# Altium integrated library Linear Technology Power Management Switching Regulator LTC1174-LTC3901.IntLib: 2647 symbols (part 80 of 364)
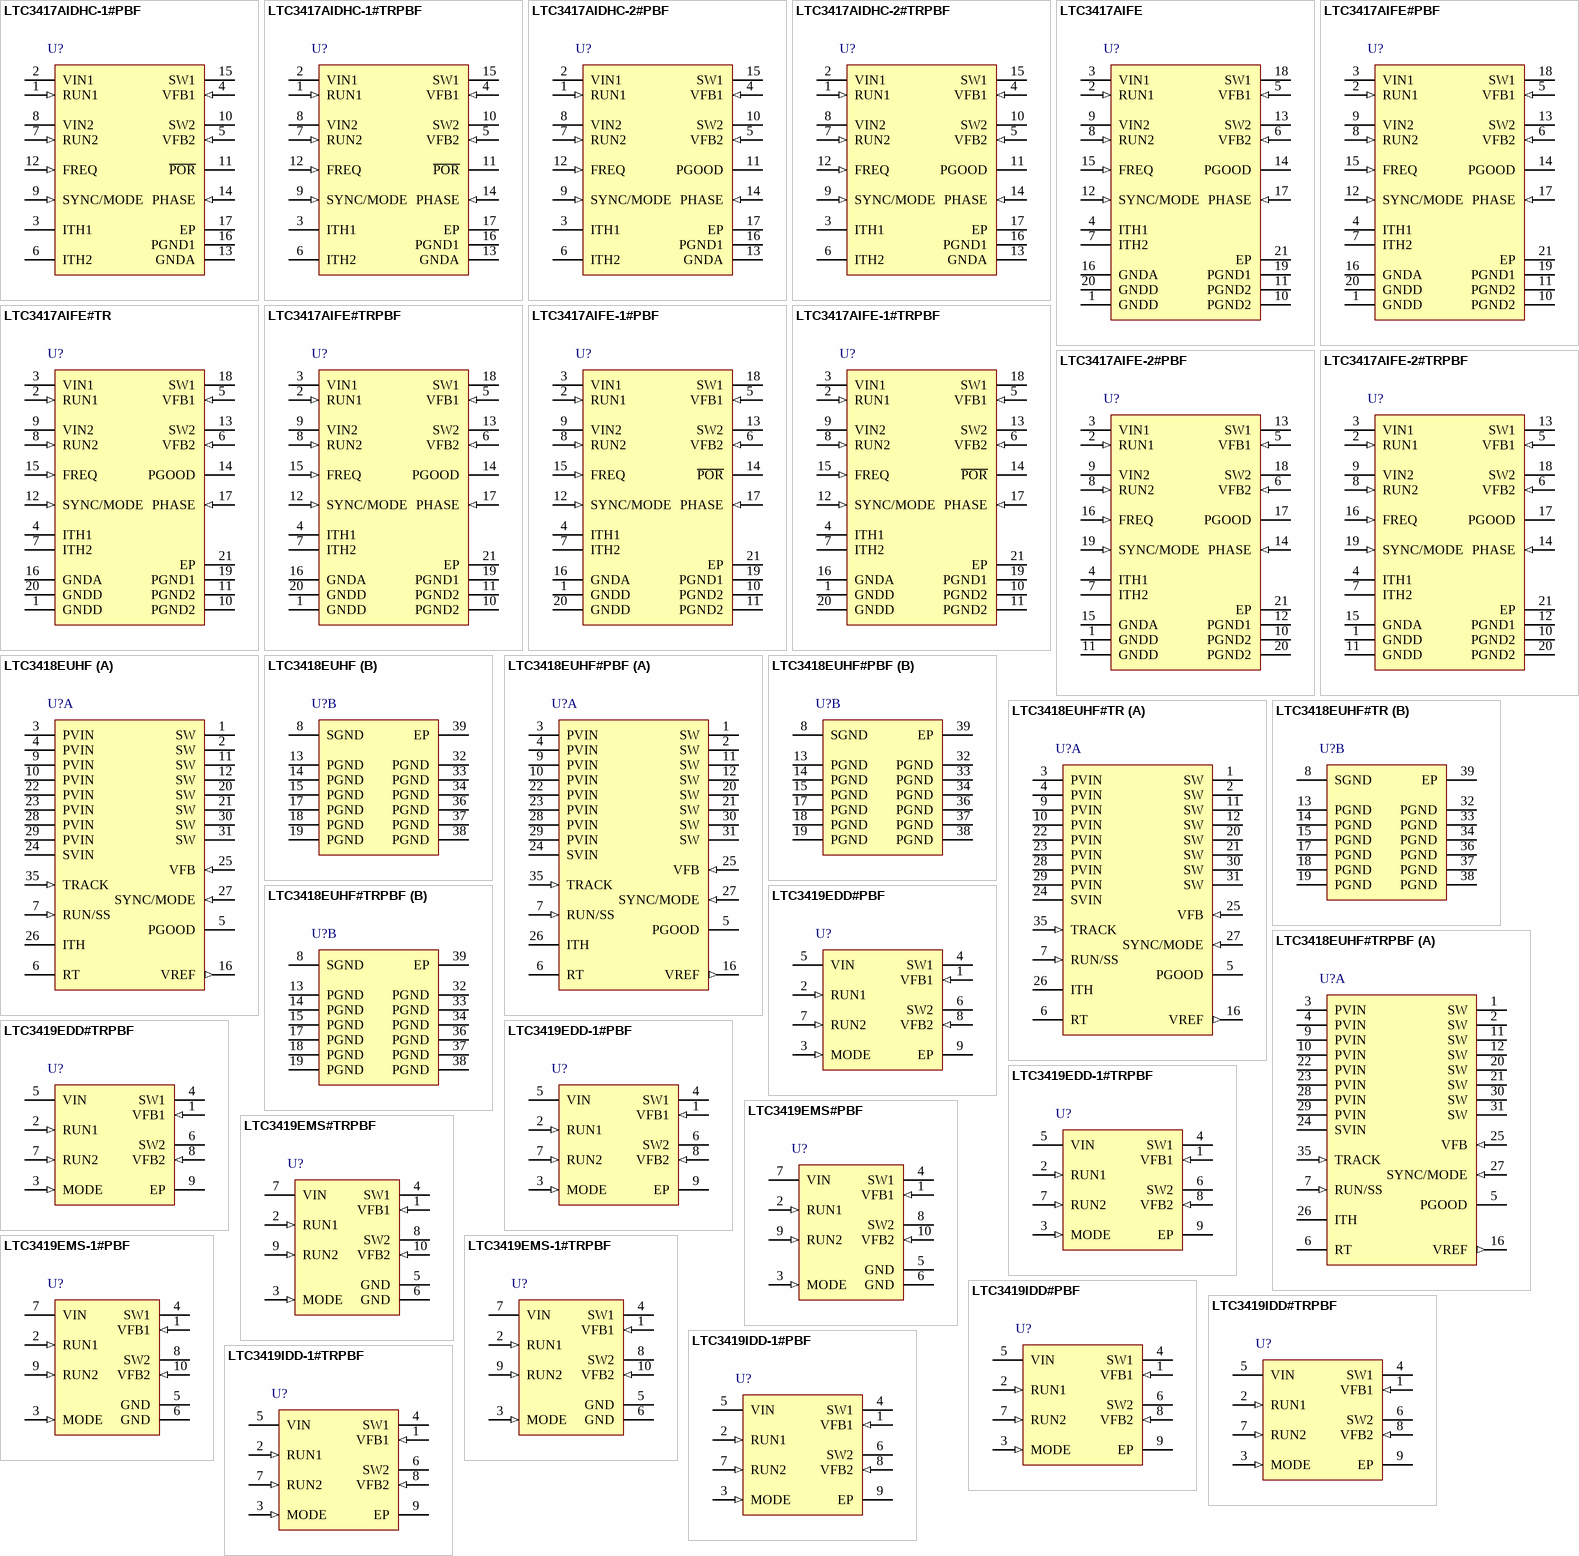
[diagram p156: symbols LTC3417AIDHC-1#PBF to LTC3419IDD-1#TRPBF]

## LTC3418EUHF#TRPBF
designator U?
8 A, 4 MHz, Monolithic Synchronous Step-Down Regulator, 38-pin QFN (UHF-38), -40 to 85 degC, Pb-Free, Tape and Reel; Manufacturer: Linear Technology; PartNumber: LTC3418EUHF#TRPBF; Frequency Sync Range: 300kHz - 4MHz; Number of Outputs: 1; DatasheetVersion: Rev. B; PackageVersion: Rev. C, 06/2010; PackageReference: UHF-38; PackageDescription: 38-Pin Plastic QFN, Body 7 x 5 mm, Pitch 0.5 mm; Supplier 1: Digi-Key; Supplier Part Number 1: LTC3418EUHF#TRPBF-ND; Supplier 2: Newark; Supplier Part Number 2: 56M7747; Packing: Tape and Reel; RoHS: TRUE; Mounting Technology: Surface Mount; Code_JEDEC: MO-220; ComponentLink1Description: Manufacturer URL; ComponentLink1URL: http://www.linear.com/; ComponentLink2Description: Datasheet; ComponentLink2URL: http://cds.linear.com/docs/en/datasheet/3418fb.pdf; ComponentLink3Description: Package Specification; ComponentLink3URL: http://cds.linear.com/docs/en/packaging/QFN_38_05-08-1701.pdf
footprint LT-UHF-38_N (QFN, 38-Leads, Body 7.1x5.1mm, Pitch 0.5mm, Thermal Pad 3.15x5.15mm, IPC Medium Density)
footprint LT-UHF-38_L (QFN, 38-Leads, Body 7.1x5.1mm, Pitch 0.5mm, Thermal Pad 3.15x5.15mm, IPC High Density)
footprint LT-UHF-38_M (QFN, 38-Leads, Body 7.1x5.1mm, Pitch 0.5mm, Thermal Pad 3.15x5.15mm, IPC Low Density)
part A pins: 1 SW (power) "Switch Node Connection to Inductor. This pin connects to the drains of the internal main and synchronous power MOSFET switches.", 2 SW (power) "Switch Node Connection to Inductor. This pin connects to the drains of the internal main and synchronous power MOSFET switches.", 3 PVIN (power) "Power Input Supply. Decouple these pins to PGND with capacitors on all four corners of the package.", 4 PVIN (power) "Power Input Supply. Decouple these pins to PGND with capacitors on all four corners of the package.", 5 PGOOD (oc) "Power Good Output. Open-drain logic output that is pulled to ground when the output voltage is not within +/-7.5% of regulation point.", 6 RT "Oscillator Resistor Input. Connecting a resistor to ground from this pin sets the switching frequency.", 7 RUN/SS (in) "Run Control and Soft-Start Input. Forcing this pin below 0.5V shuts down the LTC3418. In shutdown all functions are disabled drawing <1.5uA of supply current. A capacitor to ground from this pin sets the ramp time to full (See Datasheet)", 9 PVIN (power) "Power Input Supply. Decouple these pins to PGND with capacitors on all four corners of the package.", 10 PVIN (power) "Power Input Supply. Decouple these pins to PGND with capacitors on all four corners of the package.", 11 SW (power) "Switch Node Connection to Inductor. This pin connects to the drains of the internal main and synchronous power MOSFET switches.", 12 SW (power) "Switch Node Connection to Inductor. This pin connects to the drains of the internal main and synchronous power MOSFET switches.", 16 VREF (out) "Reference Output. Decouple this pin with a 2.2uF capacitor.", 20 SW (power) "Switch Node Connection to Inductor. This pin connects to the drains of the internal main and synchronous power MOSFET switches.", 21 SW (power) "Switch Node Connection to Inductor. This pin connects to the drains of the internal main and synchronous power MOSFET switches.", 22 PVIN (power) "Power Input Supply. Decouple these pins to PGND with capacitors on all four corners of the package.", 23 PVIN (power) "Power Input Supply. Decouple these pins to PGND with capacitors on all four corners of the package.", 24 SVIN (power) "Signal Input Supply. Decouple this pin to SGND with a capacitor.", 25 VFB (in) "Feedback Pin. Receives the feedback voltage from a resistive divider connected across the output.", 26 ITH "Error Amplifier Compensation Point. The current comparator threshold increases with this control voltage. Nominal voltage range for this pin is from 0.2V to 1.4V with 0.4V corresponding to the zero-sense voltage (zero (See Datasheet)", 27 SYNC/MODE (in) "Mode Select and External Clock Synchronization Input. To select Forced Continuous, tie to SVIN. Connecting this pin to a voltage between 0V and 1V selects Burst Mode operation with the burst clamp set to the pin voltage.", 28 PVIN (power) "Power Input Supply. Decouple these pins to PGND with capacitors on all four corners of the package.", 29 PVIN (power) "Power Input Supply. Decouple these pins to PGND with capacitors on all four corners of the package.", 30 SW (power) "Switch Node Connection to Inductor. This pin connects to the drains of the internal main and synchronous power MOSFET switches.", 31 SW (power) "Switch Node Connection to Inductor. This pin connects to the drains of the internal main and synchronous power MOSFET switches.", 35 TRACK (in) "Voltage Tracking Input. Feedback voltage will regulate to the voltage on this pin during start-up power sequencing."
part B pins: 8 SGND (power) "Signal Ground. All small-signal components and compensation components should connect to this ground, which in turn connects to PGND at one point.", 13 PGND (power) "Power Ground. Connect this pin closely to the (-) terminal of CIN and COUT.", 14 PGND (power) "Power Ground. Connect this pin closely to the (-) terminal of CIN and COUT.", 15 PGND (power) "Power Ground. Connect this pin closely to the (-) terminal of CIN and COUT.", 17 PGND (power) "Power Ground. Connect this pin closely to the (-) terminal of CIN and COUT.", 18 PGND (power) "Power Ground. Connect this pin closely to the (-) terminal of CIN and COUT.", 19 PGND (power) "Power Ground. Connect this pin closely to the (-) terminal of CIN and COUT.", 32 PGND (power) "Power Ground. Connect this pin closely to the (-) terminal of CIN and COUT.", 33 PGND (power) "Power Ground. Connect this pin closely to the (-) terminal of CIN and COUT.", 34 PGND (power) "Power Ground. Connect this pin closely to the (-) terminal of CIN and COUT.", 36 PGND (power) "Power Ground. Connect this pin closely to the (-) terminal of CIN and COUT.", 37 PGND (power) "Power Ground. Connect this pin closely to the (-) terminal of CIN and COUT.", 38 PGND (power) "Power Ground. Connect this pin closely to the (-) terminal of CIN and COUT.", 39 EP (power) "The Exposed Pad is PGND and must be soldered to the PCB ground for electrical connection and rated thermal performance."

## LTC3419EDD#PBF
designator U?
Dual Monolithic 600 mA Synchronous Step-Down Regulator, 8-pin SON (DD-8), -40 to 125 degC, Pb-Free; Manufacturer: Linear Technology; PartNumber: LTC3419EDD#PBF; Number of Outputs: 2; DatasheetVersion: Rev. A; PackageVersion: Jun-10; PackageReference: DD-8; PackageDescription: 8-Pin Plastic DFN, Body 3 x 3 mm, Pitch 0.5 mm; Supplier 1: Digi-Key; Supplier Part Number 1: LTC3419EDD#PBF-ND; Supplier 2: Farnell; Supplier Part Number 2: 2295058; Supplier 3: Newark; Supplier Part Number 3: 56M7750; RoHS: TRUE; Mounting Technology: Surface Mount; Code_JEDEC: MO-229; ComponentLink1Description: Manufacturer URL; ComponentLink1URL: http://www.linear.com/; ComponentLink2Description: Datasheet; ComponentLink2URL: http://cds.linear.com/docs/en/datasheet/3419fa.pdf; ComponentLink3Description: Package Specification; ComponentLink3URL: http://cds.linear.com/docs/en/packaging/DFN_8_05-08-1698.pdf
footprint LT-DD-8_V (SON, 8-Leads, Body 3x3mm, Pitch 0.5mm, Thermal Pad 1.65x2.38 mm)
pins: 1 VFB1 (in) "Regulator 1 Output Feedback. Receives the feedback voltage from the external resistive divider across the regulator 1 output. Nominal voltage for this pin is 0.6V.", 2 RUN1 (in) "Regulator 1 Enable. Forcing this pin to VIN enables regulator 1, while forcing it to GND causes  regulator 1 to shut down.", 3 MODE (in) "Mode Select Input. To select pulseskipping mode, tie to VIN. Grounding this pin selects Burst  Mode operation. Do not leave this pin ?oating.", 4 SW1 (power) "Regulator 1 Switch Node Connection to the Inductor. This pin swings from VIN to GND.", 5 VIN (power) "Main Power Supply. Must be closely de-coupled to GND.", 6 SW2 (power) "Regulator 2 Switch Node Connection to the Inductor. This pin swings from VIN to GND.", 7 RUN2 (in) "Regulator 2 Enable. Forcing this pin to VIN enables regulator 2, while forcing it to GND causes  regulator 2 to shut down.", 8 VFB2 (in) "Regulator 2 Output Feedback. Receives the feedback voltage from the external resistive divider across the regulator 2 output. Nominal voltage for this  pin is 0.6V.", 9 EP (power) "Ground. The Exposed Pad must be soldered to PCB for optimal thermal performance."

## LTC3419EDD#TRPBF
designator U?
Dual Monolithic 600 mA Synchronous Step-Down Regulator, 8-pin SON (DD-8), -40 to 125 degC, Pb-Free, Tape and Reel; Manufacturer: Linear Technology; PartNumber: LTC3419EDD#TRPBF; Number of Outputs: 2; DatasheetVersion: Rev. A; PackageVersion: Jun-10; PackageReference: DD-8; PackageDescription: 8-Pin Plastic DFN, Body 3 x 3 mm, Pitch 0.5 mm; Supplier 1: Digi-Key; Supplier Part Number 1: LTC3419EDD#TRPBF-ND; Supplier 2: Newark; Supplier Part Number 2: 56M7751; Packing: Tape and Reel; RoHS: TRUE; Mounting Technology: Surface Mount; Code_JEDEC: MO-229; ComponentLink1Description: Manufacturer URL; ComponentLink1URL: http://www.linear.com/; ComponentLink2Description: Datasheet; ComponentLink2URL: http://cds.linear.com/docs/en/datasheet/3419fa.pdf; ComponentLink3Description: Package Specification; ComponentLink3URL: http://cds.linear.com/docs/en/packaging/DFN_8_05-08-1698.pdf
footprint LT-DD-8_V (SON, 8-Leads, Body 3x3mm, Pitch 0.5mm, Thermal Pad 1.65x2.38 mm)
pins: 1 VFB1 (in) "Regulator 1 Output Feedback. Receives the feedback voltage from the external resistive divider across the regulator 1 output. Nominal voltage for this pin is 0.6V.", 2 RUN1 (in) "Regulator 1 Enable. Forcing this pin to VIN enables regulator 1, while forcing it to GND causes  regulator 1 to shut down.", 3 MODE (in) "Mode Select Input. To select pulseskipping mode, tie to VIN. Grounding this pin selects Burst  Mode operation. Do not leave this pin ?oating.", 4 SW1 (power) "Regulator 1 Switch Node Connection to the Inductor. This pin swings from VIN to GND.", 5 VIN (power) "Main Power Supply. Must be closely de-coupled to GND.", 6 SW2 (power) "Regulator 2 Switch Node Connection to the Inductor. This pin swings from VIN to GND.", 7 RUN2 (in) "Regulator 2 Enable. Forcing this pin to VIN enables regulator 2, while forcing it to GND causes  regulator 2 to shut down.", 8 VFB2 (in) "Regulator 2 Output Feedback. Receives the feedback voltage from the external resistive divider across the regulator 2 output. Nominal voltage for this  pin is 0.6V.", 9 EP (power) "Ground. The Exposed Pad must be soldered to PCB for optimal thermal performance."

## LTC3419EDD-1#PBF
designator U?
Dual Monolithic 600 mA Synchronous Step-Down Regulator, 8-pin SON (DD-8), -40 to 125 degC, Pb-Free; Manufacturer: Linear Technology; PartNumber: LTC3419EDD-1#PBF; Number of Outputs: 2; DatasheetVersion: Rev. A; PackageVersion: Jun-10; PackageReference: DD-8; PackageDescription: 8-Pin Plastic DFN, Body 3 x 3 mm, Pitch 0.5 mm; Supplier 1: Digi-Key; Supplier Part Number 1: LTC3419EDD-1#PBF-ND; RoHS: TRUE; Mounting Technology: Surface Mount; Code_JEDEC: MO-229; ComponentLink1Description: Manufacturer URL; ComponentLink1URL: http://www.linear.com/; ComponentLink2Description: Datasheet; ComponentLink2URL: http://cds.linear.com/docs/en/datasheet/3419fa.pdf; ComponentLink3Description: Package Specification; ComponentLink3URL: http://cds.linear.com/docs/en/packaging/DFN_8_05-08-1698.pdf
footprint LT-DD-8_V (SON, 8-Leads, Body 3x3mm, Pitch 0.5mm, Thermal Pad 1.65x2.38 mm)
pins: 1 VFB1 (in) "Regulator 1 Output Feedback. Receives the feedback voltage from the external resistive divider across the regulator 1 output. Nominal voltage for this pin is 0.6V.", 2 RUN1 (in) "Regulator 1 Enable. Forcing this pin to VIN enables regulator 1, while forcing it to GND causes  regulator 1 to shut down.", 3 MODE (in) "Mode Select Input. To select pulseskipping mode, tie to VIN. Grounding this pin selects Burst  Mode operation. Do not leave this pin ?oating.", 4 SW1 (power) "Regulator 1 Switch Node Connection to the Inductor. This pin swings from VIN to GND.", 5 VIN (power) "Main Power Supply. Must be closely de-coupled to GND.", 6 SW2 (power) "Regulator 2 Switch Node Connection to the Inductor. This pin swings from VIN to GND.", 7 RUN2 (in) "Regulator 2 Enable. Forcing this pin to VIN enables regulator 2, while forcing it to GND causes  regulator 2 to shut down.", 8 VFB2 (in) "Regulator 2 Output Feedback. Receives the feedback voltage from the external resistive divider across the regulator 2 output. Nominal voltage for this  pin is 0.6V.", 9 EP (power) "Ground. The Exposed Pad must be soldered to PCB for optimal thermal performance."

## LTC3419EDD-1#TRPBF
designator U?
Dual Monolithic 600 mA Synchronous Step-Down Regulator, 8-pin SON (DD-8), -40 to 125 degC, Pb-Free, Tape and Reel; Manufacturer: Linear Technology; PartNumber: LTC3419EDD-1#TRPBF; Number of Outputs: 2; DatasheetVersion: Rev. A; PackageVersion: Jun-10; PackageReference: DD-8; PackageDescription: 8-Pin Plastic DFN, Body 3 x 3 mm, Pitch 0.5 mm; Supplier 1: Digi-Key; Supplier Part Number 1: LTC3419EDD-1#TRPBF-ND; Packing: Tape and Reel; RoHS: TRUE; Mounting Technology: Surface Mount; Code_JEDEC: MO-229; ComponentLink1Description: Manufacturer URL; ComponentLink1URL: http://www.linear.com/; ComponentLink2Description: Datasheet; ComponentLink2URL: http://cds.linear.com/docs/en/datasheet/3419fa.pdf; ComponentLink3Description: Package Specification; ComponentLink3URL: http://cds.linear.com/docs/en/packaging/DFN_8_05-08-1698.pdf
footprint LT-DD-8_V (SON, 8-Leads, Body 3x3mm, Pitch 0.5mm, Thermal Pad 1.65x2.38 mm)
pins: 1 VFB1 (in) "Regulator 1 Output Feedback. Receives the feedback voltage from the external resistive divider across the regulator 1 output. Nominal voltage for this pin is 0.6V.", 2 RUN1 (in) "Regulator 1 Enable. Forcing this pin to VIN enables regulator 1, while forcing it to GND causes  regulator 1 to shut down.", 3 MODE (in) "Mode Select Input. To select pulseskipping mode, tie to VIN. Grounding this pin selects Burst  Mode operation. Do not leave this pin ?oating.", 4 SW1 (power) "Regulator 1 Switch Node Connection to the Inductor. This pin swings from VIN to GND.", 5 VIN (power) "Main Power Supply. Must be closely de-coupled to GND.", 6 SW2 (power) "Regulator 2 Switch Node Connection to the Inductor. This pin swings from VIN to GND.", 7 RUN2 (in) "Regulator 2 Enable. Forcing this pin to VIN enables regulator 2, while forcing it to GND causes  regulator 2 to shut down.", 8 VFB2 (in) "Regulator 2 Output Feedback. Receives the feedback voltage from the external resistive divider across the regulator 2 output. Nominal voltage for this  pin is 0.6V.", 9 EP (power) "Ground. The Exposed Pad must be soldered to PCB for optimal thermal performance."

## LTC3419EMS#PBF
designator U?
Dual Monolithic 600 mA Synchronous Step-Down Regulator, 10-pin SOP (MS-10), -40 to 125 degC, Pb-Free; Manufacturer: Linear Technology; PartNumber: LTC3419EMS#PBF; Number of Outputs: 2; DatasheetVersion: Rev. A; PackageVersion: Rev. E, 06/2010; PackageReference: MS-10; PackageDescription: 10-Pin Plastic MSOP, Body 3 x 3 mm, Pitch 0.5 mm; Supplier 1: Digi-Key; Supplier Part Number 1: LTC3419EMS#PBF-ND; Supplier 2: Farnell; Supplier Part Number 2: 2295059; Supplier 3: Newark; Supplier Part Number 3: 56M7754; RoHS: TRUE; Mounting Technology: Surface Mount; ComponentLink1Description: Manufacturer URL; ComponentLink1URL: http://www.linear.com/; ComponentLink2Description: Datasheet; ComponentLink2URL: http://cds.linear.com/docs/en/datasheet/3419fa.pdf; ComponentLink3Description: Package Specification; ComponentLink3URL: http://cds.linear.com/docs/en/packaging/05081661_F_MS.pdf
footprint LT-MS-10_N (SOP, 10-Leads, Body 3.1x3.1mm, Pitch 0.5mm, IPC Medium Density)
footprint LT-MS-10_L (SOP, 10-Leads, Body 3.1x3.1mm, Pitch 0.5mm, IPC High Density)
footprint LT-MS-10_M (SOP, 10-Leads, Body 3.1x3.1mm, Pitch 0.5mm, IPC Low Density)
pins: 1 VFB1 (in) "Regulator 1 Output Feedback. Receives the feedback voltage from the external resistive divider across the regulator 1 output. Nominal voltage for this pin is 0.6V.", 2 RUN1 (in) "Regulator 1 Enable. Forcing this pin to VIN enables regulator 1, while forcing it to GND causes regulator 1 to shut down.", 3 MODE (in) "Mode Select Input. To select pulseskipping mode, tie to VIN. Grounding this pin selects Burst Mode operation. Do not leave this pin floating.", 4 SW1 (power) "Regulator 1 Switch Node Connection to the Inductor. This pin swings from VIN to GND.", 5 GND (power) "Ground. Connect to the (-) terminal of COUT, and the (-) terminal of CIN. Pin 5 of the MS package must be soldered to the PC board for optimal thermal performance.", 6 GND (power) "Ground. Connect to the (-) terminal of COUT, and the (-) terminal of CIN. Pin 5 of the MS package must be soldered to the PC board for optimal thermal performance.", 7 VIN (power) "Main Power Supply. Must be closely de-coupled to GND.", 8 SW2 (power) "Regulator 2 Switch Node Connection to the Inductor. This pin swings from VIN to GND.", 9 RUN2 (in) "Regulator 2 Enable. Forcing this pin to VIN enables regulator 2, while forcing it to GND causes regulator 2 to shut down.", 10 VFB2 (in) "Regulator 2 Output Feedback. Receives the feedback voltage from the external resistive divider across the regulator 2 output. Nominal voltage for this pin is 0.6V."

## LTC3419EMS#TRPBF
designator U?
Dual Monolithic 600 mA Synchronous Step-Down Regulator, 10-pin SOP (MS-10), -40 to 125 degC, Pb-Free, Tape and Reel; Manufacturer: Linear Technology; PartNumber: LTC3419EMS#TRPBF; Number of Outputs: 2; DatasheetVersion: Rev. A; PackageVersion: Rev. E, 06/2010; PackageReference: MS-10; PackageDescription: 10-Pin Plastic MSOP, Body 3 x 3 mm, Pitch 0.5 mm; Supplier 1: Digi-Key; Supplier Part Number 1: LTC3419EMS#TRPBF-ND; Packing: Tape and Reel; RoHS: TRUE; Mounting Technology: Surface Mount; ComponentLink1Description: Manufacturer URL; ComponentLink1URL: http://www.linear.com/; ComponentLink2Description: Datasheet; ComponentLink2URL: http://cds.linear.com/docs/en/datasheet/3419fa.pdf; ComponentLink3Description: Package Specification; ComponentLink3URL: http://cds.linear.com/docs/en/packaging/05081661_F_MS.pdf
footprint LT-MS-10_N (SOP, 10-Leads, Body 3.1x3.1mm, Pitch 0.5mm, IPC Medium Density)
footprint LT-MS-10_L (SOP, 10-Leads, Body 3.1x3.1mm, Pitch 0.5mm, IPC High Density)
footprint LT-MS-10_M (SOP, 10-Leads, Body 3.1x3.1mm, Pitch 0.5mm, IPC Low Density)
pins: 1 VFB1 (in) "Regulator 1 Output Feedback. Receives the feedback voltage from the external resistive divider across the regulator 1 output. Nominal voltage for this pin is 0.6V.", 2 RUN1 (in) "Regulator 1 Enable. Forcing this pin to VIN enables regulator 1, while forcing it to GND causes regulator 1 to shut down.", 3 MODE (in) "Mode Select Input. To select pulseskipping mode, tie to VIN. Grounding this pin selects Burst Mode operation. Do not leave this pin floating.", 4 SW1 (power) "Regulator 1 Switch Node Connection to the Inductor. This pin swings from VIN to GND.", 5 GND (power) "Ground. Connect to the (-) terminal of COUT, and the (-) terminal of CIN. Pin 5 of the MS package must be soldered to the PC board for optimal thermal performance.", 6 GND (power) "Ground. Connect to the (-) terminal of COUT, and the (-) terminal of CIN. Pin 5 of the MS package must be soldered to the PC board for optimal thermal performance.", 7 VIN (power) "Main Power Supply. Must be closely de-coupled to GND.", 8 SW2 (power) "Regulator 2 Switch Node Connection to the Inductor. This pin swings from VIN to GND.", 9 RUN2 (in) "Regulator 2 Enable. Forcing this pin to VIN enables regulator 2, while forcing it to GND causes regulator 2 to shut down.", 10 VFB2 (in) "Regulator 2 Output Feedback. Receives the feedback voltage from the external resistive divider across the regulator 2 output. Nominal voltage for this pin is 0.6V."

## LTC3419EMS-1#PBF
designator U?
Dual Monolithic 600 mA Synchronous Step-Down Regulator, 10-pin SOP (MS-10), -40 to 125 degC, Pb-Free; Manufacturer: Linear Technology; PartNumber: LTC3419EMS-1#PBF; Number of Outputs: 2; DatasheetVersion: Rev. A; PackageVersion: Rev. E, 06/2010; PackageReference: MS-10; PackageDescription: 10-Pin Plastic MSOP, Body 3 x 3 mm, Pitch 0.5 mm; Supplier 1: Digi-Key; Supplier Part Number 1: LTC3419EMS-1#PBF-ND; RoHS: TRUE; Mounting Technology: Surface Mount; ComponentLink1Description: Manufacturer URL; ComponentLink1URL: http://www.linear.com/; ComponentLink2Description: Datasheet; ComponentLink2URL: http://cds.linear.com/docs/en/datasheet/3419fa.pdf; ComponentLink3Description: Package Specification; ComponentLink3URL: http://cds.linear.com/docs/en/packaging/05081661_F_MS.pdf
footprint LT-MS-10_N (SOP, 10-Leads, Body 3.1x3.1mm, Pitch 0.5mm, IPC Medium Density)
footprint LT-MS-10_L (SOP, 10-Leads, Body 3.1x3.1mm, Pitch 0.5mm, IPC High Density)
footprint LT-MS-10_M (SOP, 10-Leads, Body 3.1x3.1mm, Pitch 0.5mm, IPC Low Density)
pins: 1 VFB1 (in) "Regulator 1 Output Feedback. Receives the feedback voltage from the external resistive divider across the regulator 1 output. Nominal voltage for this pin is 0.6V.", 2 RUN1 (in) "Regulator 1 Enable. Forcing this pin to VIN enables regulator 1, while forcing it to GND causes regulator 1 to shut down.", 3 MODE (in) "Mode Select Input. To select pulseskipping mode, tie to VIN. Grounding this pin selects Burst Mode operation. Do not leave this pin floating.", 4 SW1 (power) "Regulator 1 Switch Node Connection to the Inductor. This pin swings from VIN to GND.", 5 GND (power) "Ground. Connect to the (-) terminal of COUT, and the (-) terminal of CIN. Pin 5 of the MS package must be soldered to the PC board for optimal thermal performance.", 6 GND (power) "Ground. Connect to the (-) terminal of COUT, and the (-) terminal of CIN. Pin 5 of the MS package must be soldered to the PC board for optimal thermal performance.", 7 VIN (power) "Main Power Supply. Must be closely de-coupled to GND.", 8 SW2 (power) "Regulator 2 Switch Node Connection to the Inductor. This pin swings from VIN to GND.", 9 RUN2 (in) "Regulator 2 Enable. Forcing this pin to VIN enables regulator 2, while forcing it to GND causes regulator 2 to shut down.", 10 VFB2 (in) "Regulator 2 Output Feedback. Receives the feedback voltage from the external resistive divider across the regulator 2 output. Nominal voltage for this pin is 0.6V."

## LTC3419EMS-1#TRPBF
designator U?
Dual Monolithic 600 mA Synchronous Step-Down Regulator, 10-pin SOP (MS-10), -40 to 125 degC, Pb-Free, Tape and Reel; Manufacturer: Linear Technology; PartNumber: LTC3419EMS-1#TRPBF; Number of Outputs: 2; DatasheetVersion: Rev. A; PackageVersion: Rev. E, 06/2010; PackageReference: MS-10; PackageDescription: 10-Pin Plastic MSOP, Body 3 x 3 mm, Pitch 0.5 mm; Supplier 1: Digi-Key; Supplier Part Number 1: LTC3419EMS-1#TRPBF-ND; Packing: Tape and Reel; RoHS: TRUE; Mounting Technology: Surface Mount; ComponentLink1Description: Manufacturer URL; ComponentLink1URL: http://www.linear.com/; ComponentLink2Description: Datasheet; ComponentLink2URL: http://cds.linear.com/docs/en/datasheet/3419fa.pdf; ComponentLink3Description: Package Specification; ComponentLink3URL: http://cds.linear.com/docs/en/packaging/05081661_F_MS.pdf
footprint LT-MS-10_N (SOP, 10-Leads, Body 3.1x3.1mm, Pitch 0.5mm, IPC Medium Density)
footprint LT-MS-10_L (SOP, 10-Leads, Body 3.1x3.1mm, Pitch 0.5mm, IPC High Density)
footprint LT-MS-10_M (SOP, 10-Leads, Body 3.1x3.1mm, Pitch 0.5mm, IPC Low Density)
pins: 1 VFB1 (in) "Regulator 1 Output Feedback. Receives the feedback voltage from the external resistive divider across the regulator 1 output. Nominal voltage for this pin is 0.6V.", 2 RUN1 (in) "Regulator 1 Enable. Forcing this pin to VIN enables regulator 1, while forcing it to GND causes regulator 1 to shut down.", 3 MODE (in) "Mode Select Input. To select pulseskipping mode, tie to VIN. Grounding this pin selects Burst Mode operation. Do not leave this pin floating.", 4 SW1 (power) "Regulator 1 Switch Node Connection to the Inductor. This pin swings from VIN to GND.", 5 GND (power) "Ground. Connect to the (-) terminal of COUT, and the (-) terminal of CIN. Pin 5 of the MS package must be soldered to the PC board for optimal thermal performance.", 6 GND (power) "Ground. Connect to the (-) terminal of COUT, and the (-) terminal of CIN. Pin 5 of the MS package must be soldered to the PC board for optimal thermal performance.", 7 VIN (power) "Main Power Supply. Must be closely de-coupled to GND.", 8 SW2 (power) "Regulator 2 Switch Node Connection to the Inductor. This pin swings from VIN to GND.", 9 RUN2 (in) "Regulator 2 Enable. Forcing this pin to VIN enables regulator 2, while forcing it to GND causes regulator 2 to shut down.", 10 VFB2 (in) "Regulator 2 Output Feedback. Receives the feedback voltage from the external resistive divider across the regulator 2 output. Nominal voltage for this pin is 0.6V."

## LTC3419IDD#PBF
designator U?
Dual Monolithic 600 mA Synchronous Step-Down Regulator, 8-pin SON (DD-8), -40 to 125 degC, Pb-Free; Manufacturer: Linear Technology; PartNumber: LTC3419IDD#PBF; Number of Outputs: 2; DatasheetVersion: Rev. A; PackageVersion: Jun-10; PackageReference: DD-8; PackageDescription: 8-Pin Plastic DFN, Body 3 x 3 mm, Pitch 0.5 mm; Supplier 1: Digi-Key; Supplier Part Number 1: LTC3419IDD#PBF-ND; Supplier 2: Newark; Supplier Part Number 2: 73P5034; RoHS: TRUE; Mounting Technology: Surface Mount; Code_JEDEC: MO-229; ComponentLink1Description: Manufacturer URL; ComponentLink1URL: http://www.linear.com/; ComponentLink2Description: Datasheet; ComponentLink2URL: http://cds.linear.com/docs/en/datasheet/3419fa.pdf; ComponentLink3Description: Package Specification; ComponentLink3URL: http://cds.linear.com/docs/en/packaging/DFN_8_05-08-1698.pdf
footprint LT-DD-8_V (SON, 8-Leads, Body 3x3mm, Pitch 0.5mm, Thermal Pad 1.65x2.38 mm)
pins: 1 VFB1 (in) "Regulator 1 Output Feedback. Receives the feedback voltage from the external resistive divider across the regulator 1 output. Nominal voltage for this pin is 0.6V.", 2 RUN1 (in) "Regulator 1 Enable. Forcing this pin to VIN enables regulator 1, while forcing it to GND causes  regulator 1 to shut down.", 3 MODE (in) "Mode Select Input. To select pulseskipping mode, tie to VIN. Grounding this pin selects Burst  Mode operation. Do not leave this pin ?oating.", 4 SW1 (power) "Regulator 1 Switch Node Connection to the Inductor. This pin swings from VIN to GND.", 5 VIN (power) "Main Power Supply. Must be closely de-coupled to GND.", 6 SW2 (power) "Regulator 2 Switch Node Connection to the Inductor. This pin swings from VIN to GND.", 7 RUN2 (in) "Regulator 2 Enable. Forcing this pin to VIN enables regulator 2, while forcing it to GND causes  regulator 2 to shut down.", 8 VFB2 (in) "Regulator 2 Output Feedback. Receives the feedback voltage from the external resistive divider across the regulator 2 output. Nominal voltage for this  pin is 0.6V.", 9 EP (power) "Ground. The Exposed Pad must be soldered to PCB for optimal thermal performance."

## LTC3419IDD#TRPBF
designator U?
Dual Monolithic 600 mA Synchronous Step-Down Regulator, 8-pin SON (DD-8), -40 to 125 degC, Pb-Free, Tape and Reel; Manufacturer: Linear Technology; PartNumber: LTC3419IDD#TRPBF; Number of Outputs: 2; DatasheetVersion: Rev. A; PackageVersion: Jun-10; PackageReference: DD-8; PackageDescription: 8-Pin Plastic DFN, Body 3 x 3 mm, Pitch 0.5 mm; Supplier 1: Digi-Key; Supplier Part Number 1: LTC3419IDD#TRPBF-ND; Packing: Tape and Reel; RoHS: TRUE; Mounting Technology: Surface Mount; Code_JEDEC: MO-229; ComponentLink1Description: Manufacturer URL; ComponentLink1URL: http://www.linear.com/; ComponentLink2Description: Datasheet; ComponentLink2URL: http://cds.linear.com/docs/en/datasheet/3419fa.pdf; ComponentLink3Description: Package Specification; ComponentLink3URL: http://cds.linear.com/docs/en/packaging/DFN_8_05-08-1698.pdf
footprint LT-DD-8_V (SON, 8-Leads, Body 3x3mm, Pitch 0.5mm, Thermal Pad 1.65x2.38 mm)
pins: 1 VFB1 (in) "Regulator 1 Output Feedback. Receives the feedback voltage from the external resistive divider across the regulator 1 output. Nominal voltage for this pin is 0.6V.", 2 RUN1 (in) "Regulator 1 Enable. Forcing this pin to VIN enables regulator 1, while forcing it to GND causes  regulator 1 to shut down.", 3 MODE (in) "Mode Select Input. To select pulseskipping mode, tie to VIN. Grounding this pin selects Burst  Mode operation. Do not leave this pin ?oating.", 4 SW1 (power) "Regulator 1 Switch Node Connection to the Inductor. This pin swings from VIN to GND.", 5 VIN (power) "Main Power Supply. Must be closely de-coupled to GND.", 6 SW2 (power) "Regulator 2 Switch Node Connection to the Inductor. This pin swings from VIN to GND.", 7 RUN2 (in) "Regulator 2 Enable. Forcing this pin to VIN enables regulator 2, while forcing it to GND causes  regulator 2 to shut down.", 8 VFB2 (in) "Regulator 2 Output Feedback. Receives the feedback voltage from the external resistive divider across the regulator 2 output. Nominal voltage for this  pin is 0.6V.", 9 EP (power) "Ground. The Exposed Pad must be soldered to PCB for optimal thermal performance."

## LTC3419IDD-1#PBF
designator U?
Dual Monolithic 600 mA Synchronous Step-Down Regulator, 8-pin SON (DD-8), -40 to 125 degC, Pb-Free; Manufacturer: Linear Technology; PartNumber: LTC3419IDD-1#PBF; Number of Outputs: 2; DatasheetVersion: Rev. A; PackageVersion: Jun-10; PackageReference: DD-8; PackageDescription: 8-Pin Plastic DFN, Body 3 x 3 mm, Pitch 0.5 mm; Supplier 1: Digi-Key; Supplier Part Number 1: LTC3419IDD-1#PBF-ND; RoHS: TRUE; Mounting Technology: Surface Mount; Code_JEDEC: MO-229; ComponentLink1Description: Manufacturer URL; ComponentLink1URL: http://www.linear.com/; ComponentLink2Description: Datasheet; ComponentLink2URL: http://cds.linear.com/docs/en/datasheet/3419fa.pdf; ComponentLink3Description: Package Specification; ComponentLink3URL: http://cds.linear.com/docs/en/packaging/DFN_8_05-08-1698.pdf
footprint LT-DD-8_V (SON, 8-Leads, Body 3x3mm, Pitch 0.5mm, Thermal Pad 1.65x2.38 mm)
pins: 1 VFB1 (in) "Regulator 1 Output Feedback. Receives the feedback voltage from the external resistive divider across the regulator 1 output. Nominal voltage for this pin is 0.6V.", 2 RUN1 (in) "Regulator 1 Enable. Forcing this pin to VIN enables regulator 1, while forcing it to GND causes  regulator 1 to shut down.", 3 MODE (in) "Mode Select Input. To select pulseskipping mode, tie to VIN. Grounding this pin selects Burst  Mode operation. Do not leave this pin ?oating.", 4 SW1 (power) "Regulator 1 Switch Node Connection to the Inductor. This pin swings from VIN to GND.", 5 VIN (power) "Main Power Supply. Must be closely de-coupled to GND.", 6 SW2 (power) "Regulator 2 Switch Node Connection to the Inductor. This pin swings from VIN to GND.", 7 RUN2 (in) "Regulator 2 Enable. Forcing this pin to VIN enables regulator 2, while forcing it to GND causes  regulator 2 to shut down.", 8 VFB2 (in) "Regulator 2 Output Feedback. Receives the feedback voltage from the external resistive divider across the regulator 2 output. Nominal voltage for this  pin is 0.6V.", 9 EP (power) "Ground. The Exposed Pad must be soldered to PCB for optimal thermal performance."

## LTC3419IDD-1#TRPBF
designator U?
Dual Monolithic 600 mA Synchronous Step-Down Regulator, 8-pin SON (DD-8), -40 to 125 degC, Pb-Free, Tape and Reel; Manufacturer: Linear Technology; PartNumber: LTC3419IDD-1#TRPBF; Number of Outputs: 2; DatasheetVersion: Rev. A; PackageVersion: Jun-10; PackageReference: DD-8; PackageDescription: 8-Pin Plastic DFN, Body 3 x 3 mm, Pitch 0.5 mm; Supplier 1: Digi-Key; Supplier Part Number 1: LTC3419IDD-1#TRPBF-ND; Packing: Tape and Reel; RoHS: TRUE; Mounting Technology: Surface Mount; Code_JEDEC: MO-229; ComponentLink1Description: Manufacturer URL; ComponentLink1URL: http://www.linear.com/; ComponentLink2Description: Datasheet; ComponentLink2URL: http://cds.linear.com/docs/en/datasheet/3419fa.pdf; ComponentLink3Description: Package Specification; ComponentLink3URL: http://cds.linear.com/docs/en/packaging/DFN_8_05-08-1698.pdf
footprint LT-DD-8_V (SON, 8-Leads, Body 3x3mm, Pitch 0.5mm, Thermal Pad 1.65x2.38 mm)
pins: 1 VFB1 (in) "Regulator 1 Output Feedback. Receives the feedback voltage from the external resistive divider across the regulator 1 output. Nominal voltage for this pin is 0.6V.", 2 RUN1 (in) "Regulator 1 Enable. Forcing this pin to VIN enables regulator 1, while forcing it to GND causes  regulator 1 to shut down.", 3 MODE (in) "Mode Select Input. To select pulseskipping mode, tie to VIN. Grounding this pin selects Burst  Mode operation. Do not leave this pin ?oating.", 4 SW1 (power) "Regulator 1 Switch Node Connection to the Inductor. This pin swings from VIN to GND.", 5 VIN (power) "Main Power Supply. Must be closely de-coupled to GND.", 6 SW2 (power) "Regulator 2 Switch Node Connection to the Inductor. This pin swings from VIN to GND.", 7 RUN2 (in) "Regulator 2 Enable. Forcing this pin to VIN enables regulator 2, while forcing it to GND causes  regulator 2 to shut down.", 8 VFB2 (in) "Regulator 2 Output Feedback. Receives the feedback voltage from the external resistive divider across the regulator 2 output. Nominal voltage for this  pin is 0.6V.", 9 EP (power) "Ground. The Exposed Pad must be soldered to PCB for optimal thermal performance."

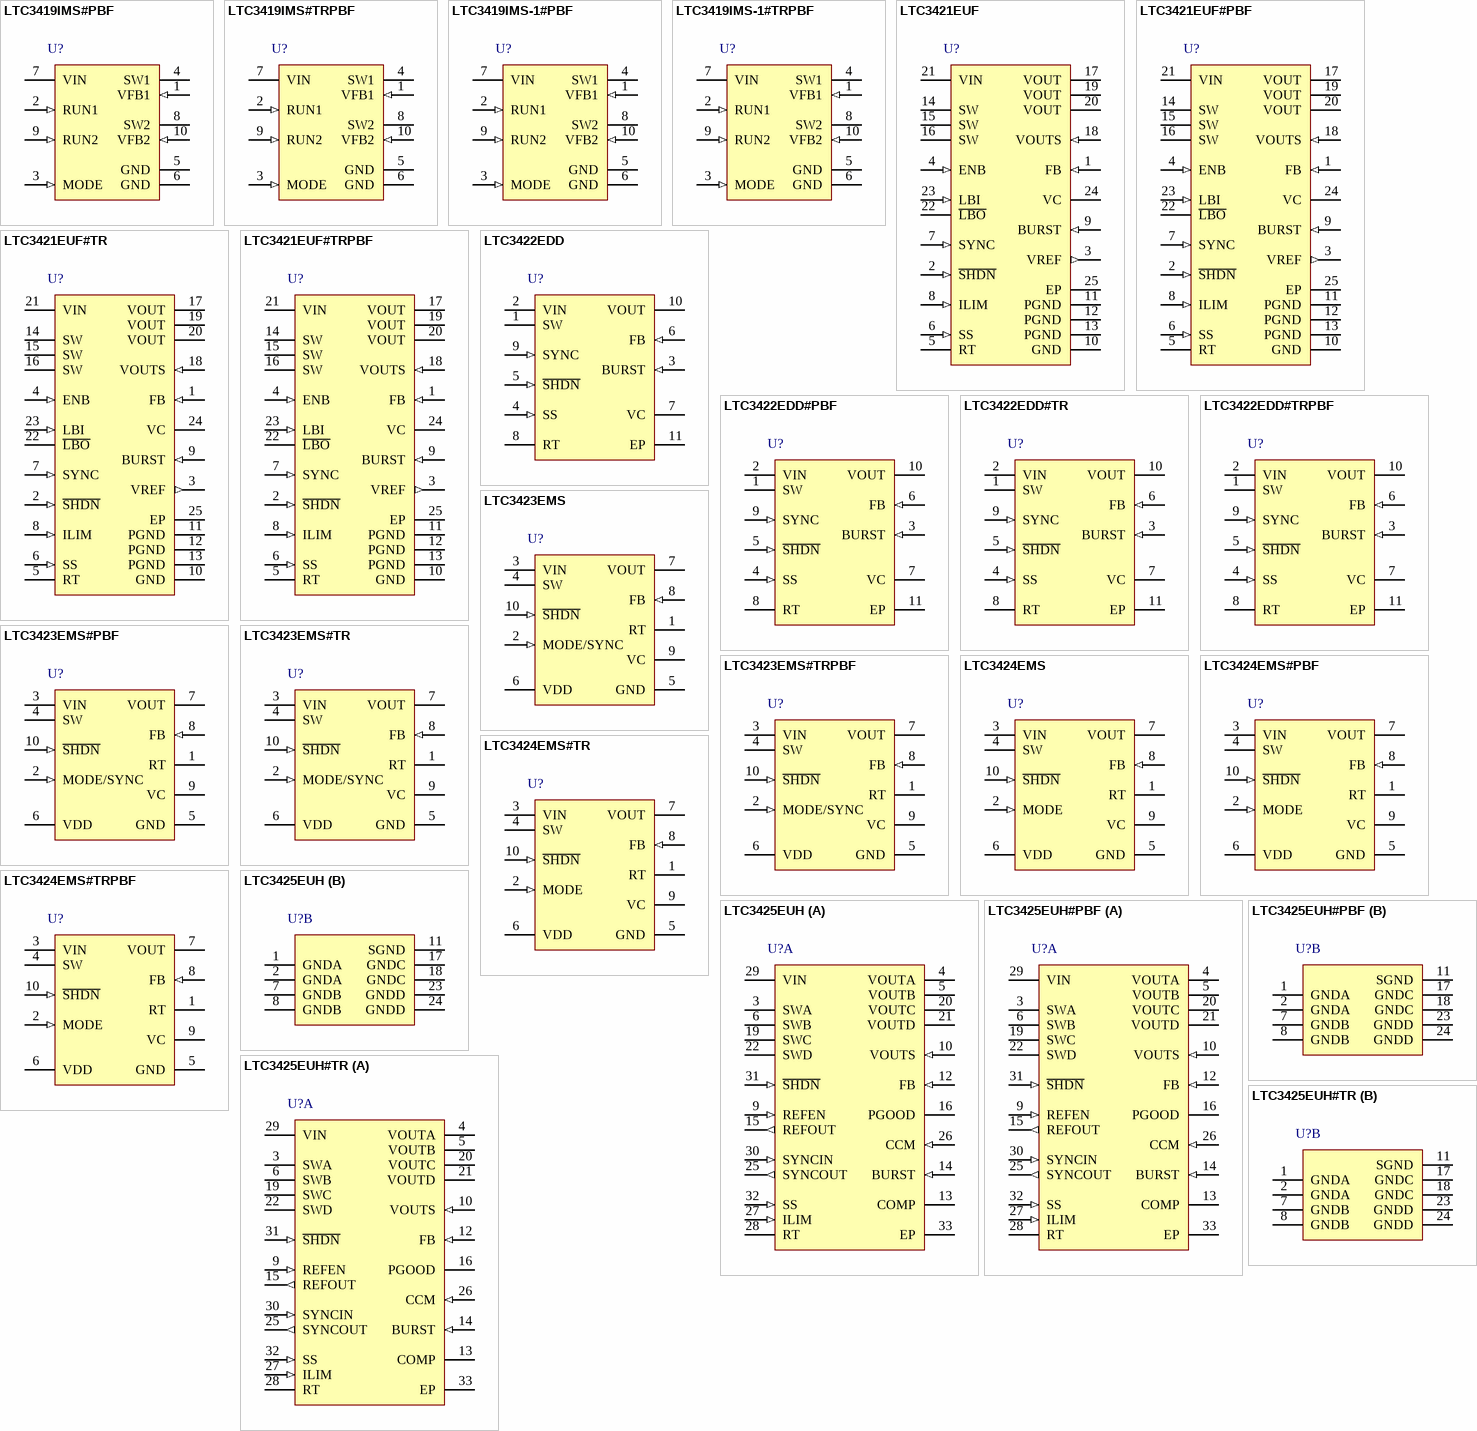
[diagram p25: symbols LTC3419IMS#PBF to LTC3425EUH#TR]

## LTC3419IMS#PBF
designator U?
Dual Monolithic 600 mA Synchronous Step-Down Regulator, 10-pin SOP (MS-10), -40 to 125 degC, Pb-Free; Manufacturer: Linear Technology; PartNumber: LTC3419IMS#PBF; Number of Outputs: 2; DatasheetVersion: Rev. A; PackageVersion: Rev. E, 06/2010; PackageReference: MS-10; PackageDescription: 10-Pin Plastic MSOP, Body 3 x 3 mm, Pitch 0.5 mm; Supplier 1: Digi-Key; Supplier Part Number 1: LTC3419IMS#PBF-ND; Supplier 2: Newark; Supplier Part Number 2: 73P5035; RoHS: TRUE; Mounting Technology: Surface Mount; ComponentLink1Description: Manufacturer URL; ComponentLink1URL: http://www.linear.com/; ComponentLink2Description: Datasheet; ComponentLink2URL: http://cds.linear.com/docs/en/datasheet/3419fa.pdf; ComponentLink3Description: Package Specification; ComponentLink3URL: http://cds.linear.com/docs/en/packaging/05081661_F_MS.pdf
footprint LT-MS-10_N (SOP, 10-Leads, Body 3.1x3.1mm, Pitch 0.5mm, IPC Medium Density)
footprint LT-MS-10_L (SOP, 10-Leads, Body 3.1x3.1mm, Pitch 0.5mm, IPC High Density)
footprint LT-MS-10_M (SOP, 10-Leads, Body 3.1x3.1mm, Pitch 0.5mm, IPC Low Density)
pins: 1 VFB1 (in) "Regulator 1 Output Feedback. Receives the feedback voltage from the external resistive divider across the regulator 1 output. Nominal voltage for this pin is 0.6V.", 2 RUN1 (in) "Regulator 1 Enable. Forcing this pin to VIN enables regulator 1, while forcing it to GND causes regulator 1 to shut down.", 3 MODE (in) "Mode Select Input. To select pulseskipping mode, tie to VIN. Grounding this pin selects Burst Mode operation. Do not leave this pin floating.", 4 SW1 (power) "Regulator 1 Switch Node Connection to the Inductor. This pin swings from VIN to GND.", 5 GND (power) "Ground. Connect to the (-) terminal of COUT, and the (-) terminal of CIN. Pin 5 of the MS package must be soldered to the PC board for optimal thermal performance.", 6 GND (power) "Ground. Connect to the (-) terminal of COUT, and the (-) terminal of CIN. Pin 5 of the MS package must be soldered to the PC board for optimal thermal performance.", 7 VIN (power) "Main Power Supply. Must be closely de-coupled to GND.", 8 SW2 (power) "Regulator 2 Switch Node Connection to the Inductor. This pin swings from VIN to GND.", 9 RUN2 (in) "Regulator 2 Enable. Forcing this pin to VIN enables regulator 2, while forcing it to GND causes regulator 2 to shut down.", 10 VFB2 (in) "Regulator 2 Output Feedback. Receives the feedback voltage from the external resistive divider across the regulator 2 output. Nominal voltage for this pin is 0.6V."

## LTC3419IMS#TRPBF
designator U?
Dual Monolithic 600 mA Synchronous Step-Down Regulator, 10-pin SOP (MS-10), -40 to 125 degC, Pb-Free, Tape and Reel; Manufacturer: Linear Technology; PartNumber: LTC3419IMS#TRPBF; Number of Outputs: 2; DatasheetVersion: Rev. A; PackageVersion: Rev. E, 06/2010; PackageReference: MS-10; PackageDescription: 10-Pin Plastic MSOP, Body 3 x 3 mm, Pitch 0.5 mm; Supplier 1: Digi-Key; Supplier Part Number 1: LTC3419IMS#TRPBF-ND; Packing: Tape and Reel; RoHS: TRUE; Mounting Technology: Surface Mount; ComponentLink1Description: Manufacturer URL; ComponentLink1URL: http://www.linear.com/; ComponentLink2Description: Datasheet; ComponentLink2URL: http://cds.linear.com/docs/en/datasheet/3419fa.pdf; ComponentLink3Description: Package Specification; ComponentLink3URL: http://cds.linear.com/docs/en/packaging/05081661_F_MS.pdf
footprint LT-MS-10_N (SOP, 10-Leads, Body 3.1x3.1mm, Pitch 0.5mm, IPC Medium Density)
footprint LT-MS-10_L (SOP, 10-Leads, Body 3.1x3.1mm, Pitch 0.5mm, IPC High Density)
footprint LT-MS-10_M (SOP, 10-Leads, Body 3.1x3.1mm, Pitch 0.5mm, IPC Low Density)
pins: 1 VFB1 (in) "Regulator 1 Output Feedback. Receives the feedback voltage from the external resistive divider across the regulator 1 output. Nominal voltage for this pin is 0.6V.", 2 RUN1 (in) "Regulator 1 Enable. Forcing this pin to VIN enables regulator 1, while forcing it to GND causes regulator 1 to shut down.", 3 MODE (in) "Mode Select Input. To select pulseskipping mode, tie to VIN. Grounding this pin selects Burst Mode operation. Do not leave this pin floating.", 4 SW1 (power) "Regulator 1 Switch Node Connection to the Inductor. This pin swings from VIN to GND.", 5 GND (power) "Ground. Connect to the (-) terminal of COUT, and the (-) terminal of CIN. Pin 5 of the MS package must be soldered to the PC board for optimal thermal performance.", 6 GND (power) "Ground. Connect to the (-) terminal of COUT, and the (-) terminal of CIN. Pin 5 of the MS package must be soldered to the PC board for optimal thermal performance.", 7 VIN (power) "Main Power Supply. Must be closely de-coupled to GND.", 8 SW2 (power) "Regulator 2 Switch Node Connection to the Inductor. This pin swings from VIN to GND.", 9 RUN2 (in) "Regulator 2 Enable. Forcing this pin to VIN enables regulator 2, while forcing it to GND causes regulator 2 to shut down.", 10 VFB2 (in) "Regulator 2 Output Feedback. Receives the feedback voltage from the external resistive divider across the regulator 2 output. Nominal voltage for this pin is 0.6V."

## LTC3419IMS-1#PBF
designator U?
Dual Monolithic 600 mA Synchronous Step-Down Regulator, 10-pin SOP (MS-10), -40 to 125 degC, Pb-Free; Manufacturer: Linear Technology; PartNumber: LTC3419IMS-1#PBF; Number of Outputs: 2; DatasheetVersion: Rev. A; PackageVersion: Rev. E, 06/2010; PackageReference: MS-10; PackageDescription: 10-Pin Plastic MSOP, Body 3 x 3 mm, Pitch 0.5 mm; Supplier 1: Digi-Key; Supplier Part Number 1: LTC3419IMS-1#PBF-ND; RoHS: TRUE; Mounting Technology: Surface Mount; ComponentLink1Description: Manufacturer URL; ComponentLink1URL: http://www.linear.com/; ComponentLink2Description: Datasheet; ComponentLink2URL: http://cds.linear.com/docs/en/datasheet/3419fa.pdf; ComponentLink3Description: Package Specification; ComponentLink3URL: http://cds.linear.com/docs/en/packaging/05081661_F_MS.pdf
footprint LT-MS-10_N (SOP, 10-Leads, Body 3.1x3.1mm, Pitch 0.5mm, IPC Medium Density)
footprint LT-MS-10_L (SOP, 10-Leads, Body 3.1x3.1mm, Pitch 0.5mm, IPC High Density)
footprint LT-MS-10_M (SOP, 10-Leads, Body 3.1x3.1mm, Pitch 0.5mm, IPC Low Density)
pins: 1 VFB1 (in) "Regulator 1 Output Feedback. Receives the feedback voltage from the external resistive divider across the regulator 1 output. Nominal voltage for this pin is 0.6V.", 2 RUN1 (in) "Regulator 1 Enable. Forcing this pin to VIN enables regulator 1, while forcing it to GND causes regulator 1 to shut down.", 3 MODE (in) "Mode Select Input. To select pulseskipping mode, tie to VIN. Grounding this pin selects Burst Mode operation. Do not leave this pin floating.", 4 SW1 (power) "Regulator 1 Switch Node Connection to the Inductor. This pin swings from VIN to GND.", 5 GND (power) "Ground. Connect to the (-) terminal of COUT, and the (-) terminal of CIN. Pin 5 of the MS package must be soldered to the PC board for optimal thermal performance.", 6 GND (power) "Ground. Connect to the (-) terminal of COUT, and the (-) terminal of CIN. Pin 5 of the MS package must be soldered to the PC board for optimal thermal performance.", 7 VIN (power) "Main Power Supply. Must be closely de-coupled to GND.", 8 SW2 (power) "Regulator 2 Switch Node Connection to the Inductor. This pin swings from VIN to GND.", 9 RUN2 (in) "Regulator 2 Enable. Forcing this pin to VIN enables regulator 2, while forcing it to GND causes regulator 2 to shut down.", 10 VFB2 (in) "Regulator 2 Output Feedback. Receives the feedback voltage from the external resistive divider across the regulator 2 output. Nominal voltage for this pin is 0.6V."

## LTC3419IMS-1#TRPBF
designator U?
Dual Monolithic 600 mA Synchronous Step-Down Regulator, 10-pin SOP (MS-10), -40 to 125 degC, Pb-Free, Tape and Reel; Manufacturer: Linear Technology; PartNumber: LTC3419IMS-1#TRPBF; Number of Outputs: 2; DatasheetVersion: Rev. A; PackageVersion: Rev. E, 06/2010; PackageReference: MS-10; PackageDescription: 10-Pin Plastic MSOP, Body 3 x 3 mm, Pitch 0.5 mm; Supplier 1: Digi-Key; Supplier Part Number 1: LTC3419IMS-1#TRPBF-ND; Packing: Tape and Reel; RoHS: TRUE; Mounting Technology: Surface Mount; ComponentLink1Description: Manufacturer URL; ComponentLink1URL: http://www.linear.com/; ComponentLink2Description: Datasheet; ComponentLink2URL: http://cds.linear.com/docs/en/datasheet/3419fa.pdf; ComponentLink3Description: Package Specification; ComponentLink3URL: http://cds.linear.com/docs/en/packaging/05081661_F_MS.pdf
footprint LT-MS-10_N (SOP, 10-Leads, Body 3.1x3.1mm, Pitch 0.5mm, IPC Medium Density)
footprint LT-MS-10_L (SOP, 10-Leads, Body 3.1x3.1mm, Pitch 0.5mm, IPC High Density)
footprint LT-MS-10_M (SOP, 10-Leads, Body 3.1x3.1mm, Pitch 0.5mm, IPC Low Density)
pins: 1 VFB1 (in) "Regulator 1 Output Feedback. Receives the feedback voltage from the external resistive divider across the regulator 1 output. Nominal voltage for this pin is 0.6V.", 2 RUN1 (in) "Regulator 1 Enable. Forcing this pin to VIN enables regulator 1, while forcing it to GND causes regulator 1 to shut down.", 3 MODE (in) "Mode Select Input. To select pulseskipping mode, tie to VIN. Grounding this pin selects Burst Mode operation. Do not leave this pin floating.", 4 SW1 (power) "Regulator 1 Switch Node Connection to the Inductor. This pin swings from VIN to GND.", 5 GND (power) "Ground. Connect to the (-) terminal of COUT, and the (-) terminal of CIN. Pin 5 of the MS package must be soldered to the PC board for optimal thermal performance.", 6 GND (power) "Ground. Connect to the (-) terminal of COUT, and the (-) terminal of CIN. Pin 5 of the MS package must be soldered to the PC board for optimal thermal performance.", 7 VIN (power) "Main Power Supply. Must be closely de-coupled to GND.", 8 SW2 (power) "Regulator 2 Switch Node Connection to the Inductor. This pin swings from VIN to GND.", 9 RUN2 (in) "Regulator 2 Enable. Forcing this pin to VIN enables regulator 2, while forcing it to GND causes regulator 2 to shut down.", 10 VFB2 (in) "Regulator 2 Output Feedback. Receives the feedback voltage from the external resistive divider across the regulator 2 output. Nominal voltage for this pin is 0.6V."

## LTC3421EUF
designator U?
3A, 3MHz Micropower Synchronous Boost Converter with Output Disconnect, 24-pin QFN (UF-24), -40 to 85 degC; Manufacturer: Linear Technology; PartNumber: LTC3421EUF; Frequency Sync Range: 100kHz - 3MHz; Number of Outputs: 1; PackageVersion: Rev. B, 02/2012; PackageReference: UF24; PackageDescription: 24-Pin Plastic QFN, Body 4 x 4 mm, Pitch 0.5 mm; Supplier 1: Digi-Key; Supplier Part Number 1: LTC3421EUF-ND; Supplier 2: Newark; Supplier Part Number 2: 56M7756; RoHS: FALSE; Mounting Technology: Surface Mount; Code_JEDEC: MO-220; ComponentLink1Description: Manufacturer URL; ComponentLink1URL: http://www.linear.com/; ComponentLink2Description: Datasheet; ComponentLink2URL: http://cds.linear.com/docs/en/datasheet/3421f.pdf; ComponentLink3Description: Package Specification; ComponentLink3URL: http://cds.linear.com/docs/en/packaging/%28UF24%29%20QFN%2005-08-1697%20Rev%20B.pdf
footprint LT-UF-24_N (QFN, 24-Leads, Body 4.1x4.1mm, Pitch 0.5mm, Thermal Pad 2.45x2.45mm, IPC Medium Density)
footprint LT-UF-24_L (QFN, 24-Leads, Body 4.1x4.1mm, Pitch 0.5mm, Thermal Pad 2.45x2.45mm, IPC High Density)
footprint LT-UF-24_M (QFN, 24-Leads, Body 4.1x4.1mm, Pitch 0.5mm, Thermal Pad 2.45x2.45mm, IPC Low Density)
pins: 1 FB (in) "Feedback Pin. Connect resistor divider tap here. The output voltage can be adjusted from 2.4V to 5.25V. The feedback reference voltage is typically 1.220V.", 2 ~{SHDN} (in) "Shutdown Pin. Less than 0.25V on this pin shuts down the IC. The IC is enabled when the S\H\D\N\ voltage is greater than 1V. Once VOUT is above 2.2V, hysteresis is applied to the pin (-500nA out of the pin) allowing it to (See Datasheet)", 3 VREF (out) "Buffered 1.22V Reference Output. This pin can source up to 100uA and sink up to 8uA. This pin must be decoupled with a 0.1uF capacitor for stability.", 4 ENB (in) "Reference Output (VREF) and Low-Battery Comparator Enable. When ENB = Low, the VREF output and low-battery comparator are disabled, which lowers the quiescent current by 5uA. When ENB = High, the VREF output and the (See Datasheet)", 5 RT "Connect a resistor to ground to program the oscillator frequency", 6 SS (in) "Soft-Start Pin. Connect a capacitor from this pin to ground to set the soft-start time", 7 SYNC (in) "Oscillator Synchronization Pin. A clock pulse width of 100ns to 2us is required to synchronize the internal oscillator. If not used SYNC should be grounded.", 8 ILIM (in) "Current Limit Adjust Pin. Connect a resistor from this pin to ground to set the peak current limit threshold for the N-channel MOSFET", 9 BURST (in) "Burst Mode Threshold Adjust Pin. A resistor/capacitor combination from this pin to ground programs the average load current at which automatic Burst Mode operation is entered", 10 GND (power) "Signal Ground Pin. Connect to ground plane near the RT resistor, error amp compensation components and feedback divider.", 11 PGND (power) "Source Terminal of Power Internal N-Channel MOSFET.", 12 PGND (power) "Source Terminal of Power Internal N-Channel MOSFET.", 13 PGND (power) "Source Terminal of Power Internal N-Channel MOSFET.", 14 SW "Switch Pin for Inductor Connection. For applications where VOUT > 4.3V, a Schottky diode from SW to VOUT or to a snubber circuit is required to maintain absolute maximum rating for SW. (see Application Circuits for 5V).", 15 SW "Switch Pin for Inductor Connection. For applications where VOUT > 4.3V, a Schottky diode from SW to VOUT or to a snubber circuit is required to maintain absolute maximum rating for SW. (see Application Circuits for 5V).", 16 SW "Switch Pin for Inductor Connection. For applications where VOUT > 4.3V, a Schottky diode from SW to VOUT or to a snubber circuit is required to maintain absolute maximum rating for SW. (see Application Circuits for 5V).", 17 VOUT (power) "The output of the synchronous rectifier and bootstrapped power source for the IC. A ceramic bypass capacitor is required to be very close to the VOUT and PGND pins of the IC.", 18 VOUTS (in) "VOUT Sense Pin. Connect VOUTS directly to an output filter capacitor. The top of the feedback divider network should also be tied to this point.", 19 VOUT (power) "The output of the synchronous rectifier and bootstrapped power source for the IC. A ceramic bypass capacitor is required to be very close to the VOUT and PGND pins of the IC.", 20 VOUT (power) "The output of the synchronous rectifier and bootstrapped power source for the IC. A ceramic bypass capacitor is required to be very close to the VOUT and PGND pins of the IC.", 21 VIN (power) "Input Supply Pin. Connect this pin to the input supply and decouple with at least a 4.7uF ceramic capacitor.", 22 ~{LBO} (oc) "Open-Drain Output. This pin pulls low when the LBI input is below 0.6V. The open-drain output can sink up to 20mA. During Burst Mode operation L\B\O\ is only active during the time the IC wakes up to service the output.", 23 LBI (in) "Low-Battery Comparator Input. Typical threshold voltage is 0.6V with 30mV hysteresis. This function is enabled when the ENB pin is high. The lowbattery comparator will operate off VIN or VOUT, whichever is greater.", 24 VC "Error Amp Output. A frequency compensation network is connected from this pin to ground to compensate the loop. See the section Compensating the Feedback Loop for guidelines.", 25 EP (power) "Ground. This pin must be soldered to the PCB and is typically connected through the power GND plane."